# EAGLE library part AT-YMEGA-XXA4-CU (library xmega)
ATxMega A4 VBGA
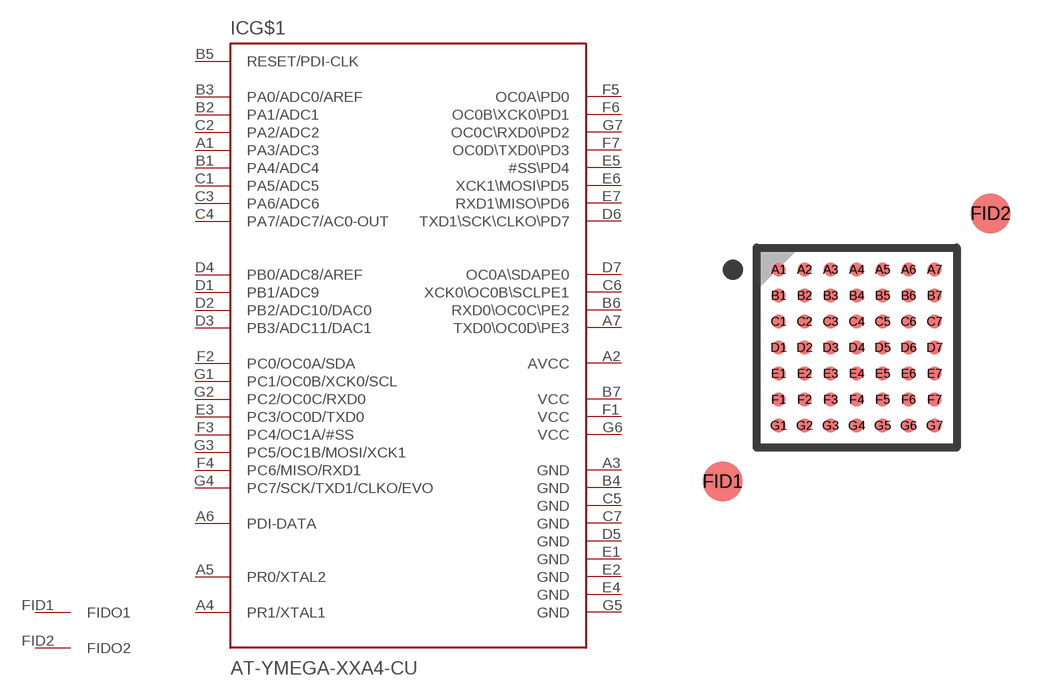
[diagram p2: symbol with the pads of BGA49C65P7X7_500X500X100; footprint BGA49C65P7X7_500X500X100]

Designator prefix IC; gates G$1=XMEGA-A4-VFBGA G$2=FIDO

## AT-YMEGA-XXA4-CU  [BGA49C65P7X7_500X500X100]
A1  G$1:PA3/ADC3
A2  G$1:AVCC  pwr
A3  G$1:GND  pwr
A4  G$1:PR1/XTAL1
A5  G$1:PR0/XTAL2
A6  G$1:PDI-DATA
A7  G$1:TXD0\OC0D\PE3
B1  G$1:PA4/ADC4
B2  G$1:PA1/ADC1
B3  G$1:PA0/ADC0/AREF
B4  G$1:GND  pwr
B5  G$1:RESET/PDI-CLK  in
B6  G$1:RXD0\OC0C\PE2
B7  G$1:VCC  pwr
C1  G$1:PA5/ADC5
C2  G$1:PA2/ADC2
C3  G$1:PA6/ADC6
C4  G$1:PA7/ADC7/AC0-OUT
C5  G$1:GND  pwr
C6  G$1:XCK0\OC0B\SCLPE1
C7  G$1:GND  pwr
D1  G$1:PB1/ADC9
D2  G$1:PB2/ADC10/DAC0
D3  G$1:PB3/ADC11/DAC1
D4  G$1:PB0/ADC8/AREF
D5  G$1:GND  pwr
D6  G$1:TXD1\SCK\CLKO\PD7
D7  G$1:OC0A\SDAPE0
E1  G$1:GND  pwr
E2  G$1:GND  pwr
E3  G$1:PC3/OC0D/TXD0
E4  G$1:GND  pwr
E5  G$1:#SS\PD4
E6  G$1:XCK1\MOSI\PD5
E7  G$1:RXD1\MISO\PD6
F1  G$1:VCC  pwr
F2  G$1:PC0/OC0A/SDA
F3  G$1:PC4/OC1A/#SS
F4  G$1:PC6/MISO/RXD1
F5  G$1:OC0A\PD0
F6  G$1:OC0B\XCK0\PD1
F7  G$1:OC0D\TXD0\PD3
FID1  G$2:FIDO1  nc
FID2  G$2:FIDO2  nc
G1  G$1:PC1/OC0B/XCK0/SCL
G2  G$1:PC2/OC0C/RXD0
G3  G$1:PC5/OC1B/MOSI/XCK1
G4  G$1:PC7/SCK/TXD1/CLKO/EVO
G5  G$1:GND  pwr
G6  G$1:VCC  pwr
G7  G$1:OC0C\RXD0\PD2

## Footprint BGA49C65P7X7_500X500X100 (pad centres in mm)
VFBGA-49
smd 0.35 x 0.35: A1 -1.95,1.95; A2 -1.3,1.95; A3 -0.65,1.95; A4 0,1.95; A5 0.65,1.95; A6 1.3,1.95; A7 1.95,1.95; B1 -1.95,1.3; B2 -1.3,1.3; B3 -0.65,1.3; B4 0,1.3; B5 0.65,1.3; B6 1.3,1.3; B7 1.95,1.3; C1 -1.95,0.65; C2 -1.3,0.65; C3 -0.65,0.65; C4 0,0.65; C5 0.65,0.65; C6 1.3,0.65; C7 1.95,0.65; D1 -1.95,0; D2 -1.3,0; D3 -0.65,0; D4 0,0; D5 0.65,0; D6 1.3,0; D7 1.95,0; E1 -1.95,-0.65; E2 -1.3,-0.65; E3 -0.65,-0.65; E4 0,-0.65; E5 0.65,-0.65; E6 1.3,-0.65; E7 1.95,-0.65; F1 -1.95,-1.3; F2 -1.3,-1.3; F3 -0.65,-1.3; F4 0,-1.3; F5 0.65,-1.3; F6 1.3,-1.3; F7 1.95,-1.3; G1 -1.95,-1.95; G2 -1.3,-1.95; G3 -0.65,-1.95; G4 0,-1.95; G5 0.65,-1.95; G6 1.3,-1.95; G7 1.95,-1.95
smd 1 x 1: FID1 -3.35,-3.35; FID2 3.35,3.35